# EAGLE library part MC33269D-3.3G (library ON Semiconductor_By_element14_Batch_1)
Voltage Regulator
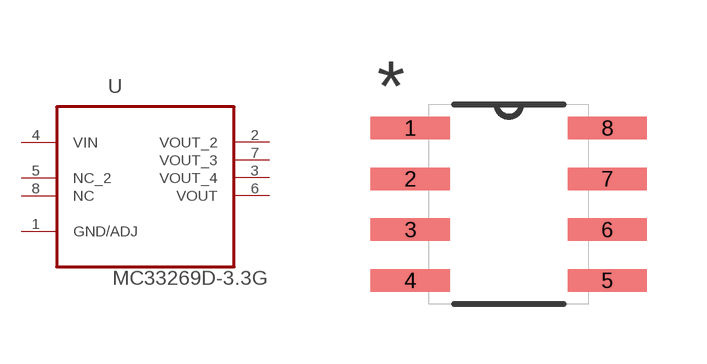
[diagram p373: symbol with the pads of SOIC127P600X175-8N; footprint SOIC127P600X175-8N]

Designator prefix U

## MC33269D-3.3G (MPN: MC33269D-3.3G; OC_FARNELL: 1652329; OC_NEWARK: 45J1180; PACKAGE: SOIC-8; SUPPLIER: ON Semiconductor)  [SOIC127P600X175-8N]
1  GND/ADJ  pas
2  VOUT_2  out
3  VOUT_4  out
4  VIN  pwr
5  NC_2  nc
6  VOUT  out
7  VOUT_3  out
8  NC  nc

## Footprint SOIC127P600X175-8N (pad centres in mm)
smd 1.981 x 0.559: 1 -2.464,1.905; 2 -2.464,0.635; 3 -2.464,-0.635; 4 -2.464,-1.905; 5 2.464,-1.905; 6 2.464,-0.635; 7 2.464,0.635; 8 2.464,1.905